# Altium footprint library JOHANSON_2450BP14D0100.PcbLib: 1 footprints
Each footprint in its own frame and in the unit in brackets; x right, y up, seen from the top. Pads: shape width x height; smd on the part's side, far side on the other; paste and mask are expansions set on the pad; w line width, h text height; cw(c..) or ccw(c..) is an arc to the next point about the centre after c.
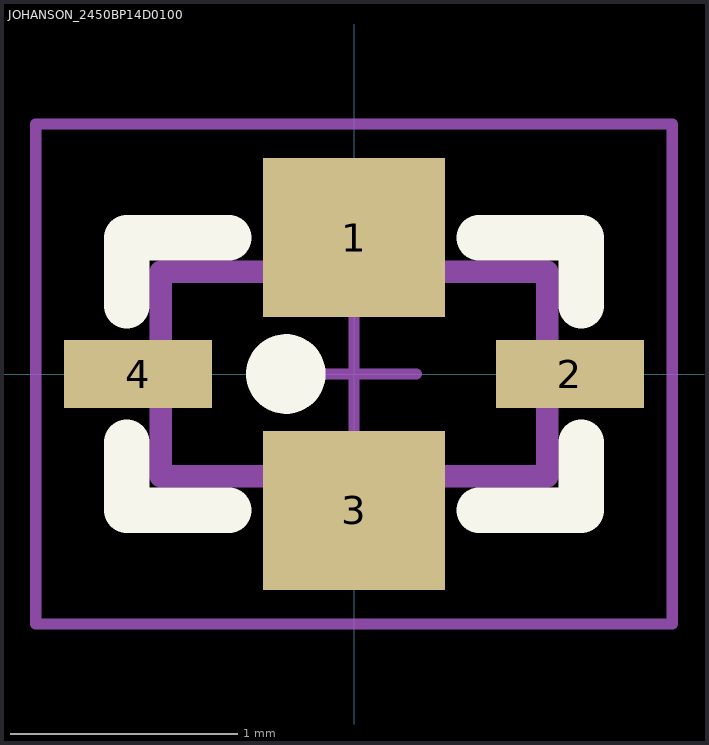
[diagram p0: the footprint, top view; thin cyan lines are the x and y axes]

## JOHANSON_2450BP14D0100 [mm] "JOHANSON_2450BP14D0100"
height 0.7
pads (4):
  rect 0.8x0.7 smd mask+0.05: 1(0,0.6) 3(0,-0.6)
  rect 0.65x0.3 smd mask+0.05: 2(0.95,0) 4(-0.95,0)
Top Overlay:
  circle w0.2: c-0.3,0 r0.075
  lines w0.2: -1,-0.3 -1,-0.6 -0.55,-0.6 ; -1,0.3 -1,0.6 -0.55,0.6 ; 0.55,-0.6 1,-0.6 1,-0.3 ; 0.55,0.6 1,0.6 1,0.3
Mechanical 13:
  lines w0.1: -0.85,-0.45 0.85,-0.45 0.85,0.45 -0.85,0.45 -0.85,-0.45
Mechanical 15:
  lines w0.05: -0.275,0 0.275,0 ; 0,-0.275 0,0.275 ; -1.4,-1.1 -1.4,1.1 1.4,1.1 1.4,-1.1 -1.4,-1.1
3D body "JOHANSON_2450BP14D0100.step": height 0.63, standoff 0.01, extent -0.801,-0.401 0.801,0.401